# Altium footprint library C.PcbLib: 29 footprints (part 2 of 2)
Each footprint in its own frame and in the unit in brackets; x right, y up, seen from the top. Pads: shape width x height; smd on the part's side, far side on the other; paste and mask are expansions set on the pad; w line width, h text height; cw(c..) or ccw(c..) is an arc to the next point about the centre after c.
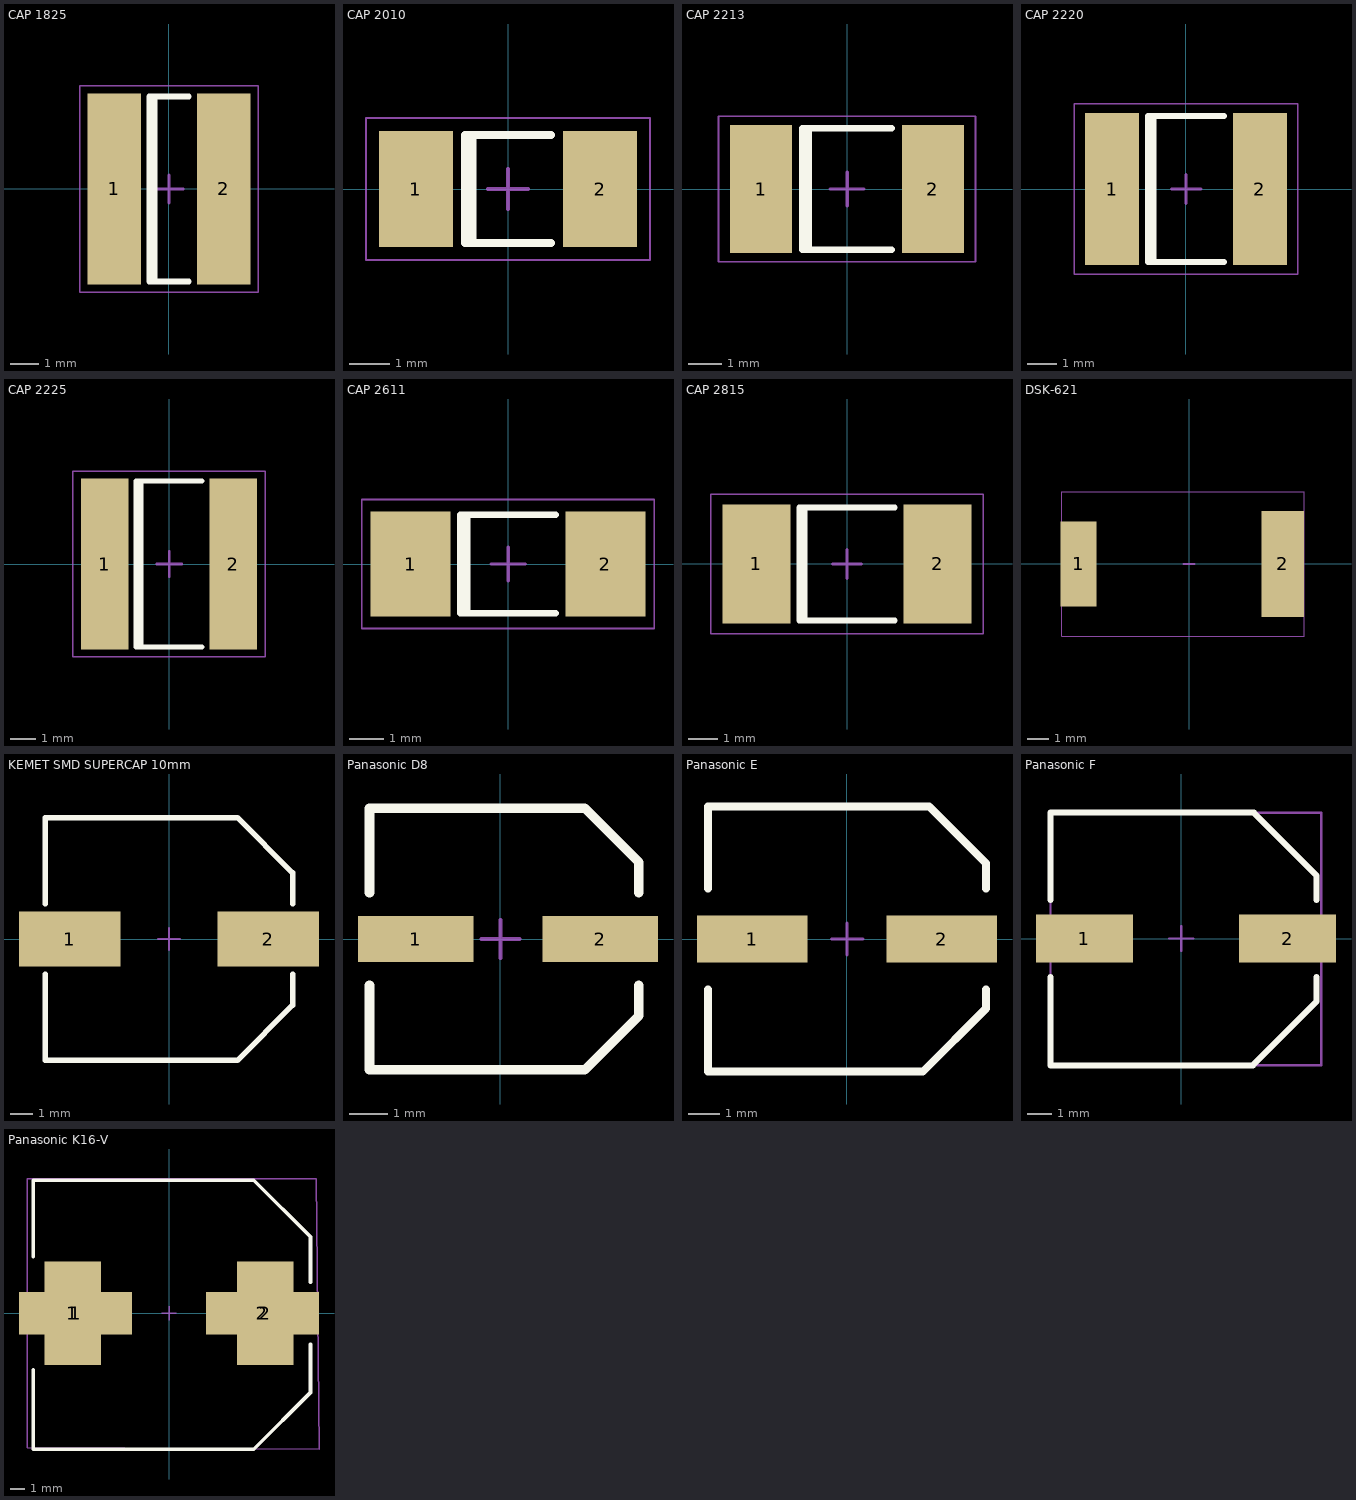
[diagram p1: the footprints below, top view; thin cyan lines are the x and y axes]

## CAP 1825 [mm] "Chip Capacitor; Body 4.5 x 6.4 mm (LxW typ)"
height 1.1
pads (2):
  rect 1.9x6.8 smd: 1(-1.95,0) 2(1.95,0)
Top Overlay:
  lines w0.2: -0.51,-3.3 -0.51,3.3 ; 0.7,-3.3 -0.7,-3.3 -0.7,3.3 0.7,3.3
Mechanical 3:
  text ".Designator" at -3.175,4.064 h0.5
Mechanical 15:
  lines w0.05: -3.175,-3.683 3.175,-3.683 3.175,3.683 -3.175,3.683 -3.175,-3.683
  lines w0.1: -0.495,0 0.505,0 ; 0.005,-0.5 0.005,0.5
3D body: height 1, standoff 0, extent 1.27,-3.175 2.54,3.048
3D body: height 1, standoff 0, extent -1.27,-3.175 1.27,3.048
3D body: height 1, standoff 0, extent -2.477,-3.175 -1.27,3.048

## CAP 2010 [mm] "Chip Capacitor; Body 5.08 x 2.54 mm (LxW typ)"
height 1.66
pads (2):
  rect 1.85x2.9 smd: 1(-2.3,0) 2(2.3,0)
Top Overlay:
  lines w0.2: -0.885,-1.35 -0.885,1.35 ; 1.075,-1.35 -1.075,-1.35 -1.075,1.35 1.075,1.35
Mechanical 3:
  text ".Designator" at -3.556,2.159 h0.5
Mechanical 15:
  lines w0.05: -3.556,-1.778 -3.556,1.778 3.556,1.778 3.556,-1.778 -3.556,-1.778
  lines w0.1: -0.495,0 0.505,0 ; 0.005,-0.5 0.005,0.5
3D body: height 1, standoff 0, extent -2.476,-1.524 -1.27,1.524
3D body: height 1, standoff 0, extent -1.27,-1.524 1.27,1.524
3D body: height 1, standoff 0, extent 1.27,-1.524 2.54,1.524

## CAP 2213 [mm] "Chip Capacitor; Body 5.59 x 3.43 mm (LxW typ)"
height 2.16
pads (2):
  rect 1.85x3.8 smd: 1(-2.55,0) 2(2.55,0)
Top Overlay:
  lines w0.2: -1.135,-1.8 -1.135,1.8 ; 1.325,-1.8 -1.325,-1.8 -1.325,1.8 1.325,1.8
Mechanical 3:
  text ".Designator" at -3.81,2.54 h0.5
Mechanical 15:
  lines w0.05: -3.81,-2.159 3.81,-2.159 3.81,2.159 -3.81,2.159 -3.81,-2.159
  lines w0.1: -0.495,0 0.505,0 ; 0.005,-0.5 0.005,0.5
3D body: height 1, standoff 0, extent 1.651,-1.778 2.921,1.778
3D body: height 1, standoff 0, extent -1.651,-1.778 1.651,1.778
3D body: height 1, standoff 0, extent -2.889,-1.778 -1.651,1.778

## CAP 2220 [mm] "Chip Capacitor; Body 5.7 x 5.0 mm (LxW typ)"
height 1.8
pads (2):
  rect 1.85x5.2 smd: 1(-2.525,0) 2(2.525,0)
Top Overlay:
  lines w0.2: -1.11,-2.5 -1.11,2.5 ; 1.3,-2.5 -1.3,-2.5 -1.3,2.5 1.3,2.5
Mechanical 3:
  text ".Designator" at -3.81,3.302 h0.5
Mechanical 15:
  lines w0.05: -3.81,-2.921 -3.81,2.921 3.81,2.921 3.81,-2.921 -3.81,-2.921
  lines w0.1: -0.495,0 0.505,0 ; 0.005,-0.5 0.005,0.5
3D body: height 1, standoff 0, extent -3.175,-2.413 -1.905,2.413
3D body: height 1, standoff 0, extent -1.905,-2.413 1.905,2.413
3D body: height 1, standoff 0, extent 1.905,-2.413 3.175,2.413

## CAP 2225 [mm] "Chip Capacitor; Body 5.6 x 6.4 mm (LxW typ)"
height 2
pads (2):
  rect 1.9x6.8 smd: 1(-2.55,0) 2(2.55,0)
Top Overlay:
  lines w0.2: -1.11,-3.3 -1.11,3.3 ; 1.3,-3.3 -1.3,-3.3 -1.3,3.3 1.3,3.3
Mechanical 3:
  text ".Designator" at -3.81,4.064 h0.5
Mechanical 15:
  lines w0.05: -3.81,-3.683 -3.81,3.683 3.81,3.683 3.81,-3.683 -3.81,-3.683
  lines w0.1: -0.495,0 0.505,0 ; 0.005,-0.5 0.005,0.5
3D body: height 1, standoff 0, extent -3.175,-3.048 -1.905,3.048
3D body: height 1, standoff 0, extent -1.905,-3.048 1.905,3.048
3D body: height 1, standoff 0, extent 1.905,-3.048 3.175,3.048

## CAP 2611 [mm] "Chip Capacitor; Body 6.73 x 2.79 mm (LxW typ)"
height 3.18
pads (2):
  rect 2.35x3.1 smd: 1(-2.875,0) 2(2.875,0)
Top Overlay:
  lines w0.2: -1.21,-1.45 -1.21,1.45 ; 1.4,-1.45 -1.4,-1.45 -1.4,1.45 1.4,1.45
Mechanical 3:
  text ".Designator" at -4.318,2.286 h0.5
Mechanical 15:
  lines w0.05: -4.318,-1.905 4.318,-1.905 4.318,1.905 -4.318,1.905 -4.318,-1.905
  lines w0.1: -0.495,0 0.505,0 ; 0.005,-0.5 0.005,0.5
3D body: height 1, standoff 0, extent 1.905,-1.397 3.556,1.397
3D body: height 1, standoff 0, extent -1.905,-1.397 1.905,1.397
3D body: height 1, standoff 0, extent -3.556,-1.397 -1.905,1.397

## CAP 2815 [mm] "Chip Capacitor; Body 7.24 x 3.81 mm (LxW typ)"
height 3.18
pads (2):
  rect 2.35x4.1 smd: 1(-3.125,0) 2(3.125,0)
Top Overlay:
  lines w0.2: -1.46,-1.95 -1.46,1.95 ; 1.65,-1.95 -1.65,-1.95 -1.65,1.95 1.65,1.95
Mechanical 3:
  text ".Designator" at -4.699,2.794 h0.5
Mechanical 15:
  lines w0.05: -4.699,-2.413 -4.699,2.413 4.699,2.413 4.699,-2.413 -4.699,-2.413
  lines w0.1: -0.495,0 0.505,0 ; 0.005,-0.5 0.005,0.5
3D body: height 1, standoff 0, extent -4,-1.778 -2.286,1.778
3D body: height 1, standoff 0, extent -2.286,-1.778 2.286,1.778
3D body: height 1, standoff 0, extent 2.286,-1.778 3.951,1.778

## DSK-621 [mm] "ELNA Supercapacitor (EDLC) 3.3V Coin, Wide Terminals"
height 0.6
pads (2):
  rect 1.7x4 smd: 1(-5.2,0)
  rect 2x5 smd: 2(4.4,0)
Mechanical 3:
  text ".Designator" at -1.524,1.016 h0.5
Mechanical 15:
  lines w0.05: -6,-3.4 -6,3.4 5.4,3.4 5.4,-3.4 -6,-3.4
  lines w0.1: -0.254,0 0.254,0 ; 4.805,-0.254 4.805,0.254
3D body "DSK3R3H-224-HL.stp": height 2.8, standoff 0, extent -5.9,-3.4 5.4,3.4

## KEMET SMD SUPERCAP 10mm [mm] "Supercaps - SMD"
height 12
pads (2):
  rect 4.6x2.5 smd: 1(-4.5,0) 2(4.5,0)
Top Overlay:
  lines w0.25: -5.6,-1.6 -5.6,-5.5 3.1,-5.5 5.6,-3 5.6,-1.6 ; -5.6,1.6 -5.6,5.5 3.1,5.5 5.6,3 5.6,1.6
Mechanical 3:
  text ".Designator" at -4.599,2.794 h0.5
Mechanical 15:
  lines w0.1: -0.495,0 0.505,0 ; 0.005,-0.5 0.005,0.5
3D body "FC0V474ZFTBR24.step": height 8.21, standoff -0.3, extent -6.6,-5.5 6.6,5.5

## Panasonic D8 [mm] "Aluminum Electrolytic Capacitors - SMD"
height 8
pads (2):
  rect 3x1.2 smd: 1(-2.2,0) 2(2.6,0)
Top Overlay:
  lines w0.25: -3.4,-1.2 -3.4,-3.4 2.2,-3.4 3.6,-2 3.6,-1.2 ; -3.4,1.2 -3.4,3.4 2.2,3.4 3.6,2 3.6,1.2
Mechanical 3:
  text ".Designator" at -4.699,2.794 h0.5
Mechanical 15:
  lines w0.1: -0.495,0 0.505,0 ; 0.005,-0.5 0.005,0.5
3D body "6.3 SIZE CODE D8.step": height 7.7, standoff 0, extent -3.45,-3.3 3.85,3.3

## Panasonic E [mm] "Aluminum Electrolytic Capacitors - SMD"
height 12
pads (2):
  rect 3.5x1.5 smd: 1(-3,0) 2(3,0)
Top Overlay:
  lines w0.25: -4.4,-1.6 -4.4,-4.2 2.4,-4.2 4.4,-2.2 4.4,-1.6 ; -4.4,1.6 -4.4,4.2 2.6,4.2 4.4,2.4 4.4,1.6
Mechanical 3:
  text ".Designator" at -3.8,1.4 h0.5
Mechanical 15:
  lines w0.1: -0.495,0 0.505,0 ; 0.005,-0.5 0.005,0.5
3D body "8 SIZE CODE E.step": height 6.2, standoff 0, extent -4.5,-4.15 4.5,4.15

## Panasonic F [mm] "Aluminum Electrolytic Capacitors - SMD"
height 12
pads (2):
  rect 4x2 smd: 1(-4,0) 2(4.4,0)
Top Overlay:
  lines w0.25: -5.4,-1.6 -5.4,-5.24 2.96,-5.24 5.6,-2.6 5.6,-1.6 ; -5.4,1.6 -5.4,5.2 3,5.2 5.6,2.6 5.6,1.6
Mechanical 1:
  lines w0.1: -5.4,-5.24 5.798,-5.24 5.798,5.2 -5.4,5.2 -5.4,-5.24
Mechanical 3:
  text ".Designator" at -4.699,2.794 h0.5
Mechanical 15:
  lines w0.1: -0.495,0 0.505,0 ; 0.005,-0.5 0.005,0.5
3D body "10 SIZE CODE F12 v1.step": height 13, standoff 0.4, extent -5.3,-5.15 5.7,5.15

## Panasonic K16-V [mm] "Aluminum Electrolytic Capacitors - SMD"
height 18
pads (4):
  rect 4x7.3 smd: 1(-6.8,0) 2(6.8,0)
  rect 8x3 smd: 1(-6.6,0) 2(6.6,0)
Top Overlay:
  lines w0.25: -9.6,-4 -9.6,-9.6 6,-9.6 10,-5.6 10,-2.2 ; -9.6,4 -9.6,9.4 6,9.4 10,5.4 10,2.2
Mechanical 1:
  lines w0.1: -10,-9.5 -10,9.5 10.4,9.5 10.6,-9.6 -10,-9.5
Mechanical 3:
  text ".Designator" at -4.699,2.794 h0.5
Mechanical 15:
  lines w0.1: -0.495,0 0.505,0 ; 0.005,-0.5 0.005,0.5
3D body "猞18 SIZE CODE K16-V.stp": height 16.8, standoff 0, extent -10,-9.5 10.4,9.5